# EAGLE library part 1988930 (library 1988930)
PCB Terminal Block 1988930 Source: Datasheet <https://www.mouser.it/datasheet/2/324/ItemDetail_1988930-923961.pdf>
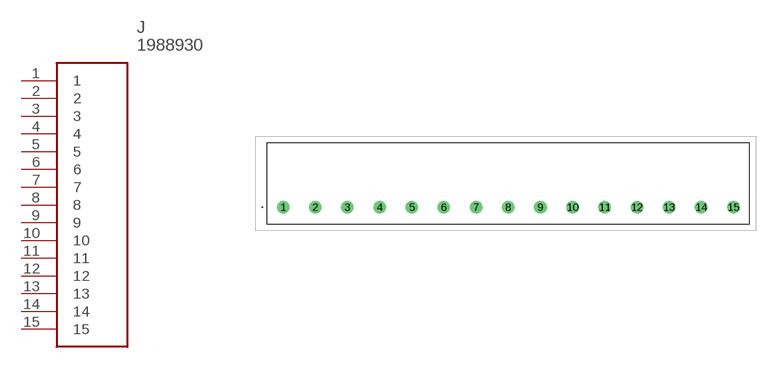
[diagram p0: symbol with the pads of 1988930; footprint 1988930]

Designator prefix J

## 1988930 (Description: PCB Terminal Block 1988930; Height: 12.05mm; Manufacturer_Name: Phoenix Contact; Manufacturer_Part_Number: 1988930; Mouser_Part_Number: 651-1988930; Mouser_Price-Stock: https://www.mouser.co.uk/ProductDetail/Phoenix-Contact/1988930?qs=eiqBpq341KUF0DIPygZiFg%3D%3D)  [1988930]
1  1
2  2
3  3
4  4
5  5
6  6
7  7
8  8
9  9
10  10
11  11
12  12
13  13
14  14
15  15

## Footprint 1988930 (pad centres in mm)
1988930-1
drill 1.3 pad 1.95: 1 0,0; 2 5,0; 3 10,0; 4 15,0; 5 20,0; 6 25,0; 7 30,0; 8 35,0; 9 40,0; 10 45,0; 11 50,0; 12 55,0; 13 60,0; 14 65,0; 15 70,0